# EAGLE library part MSP430FR2311IPW16 (library companion_board)
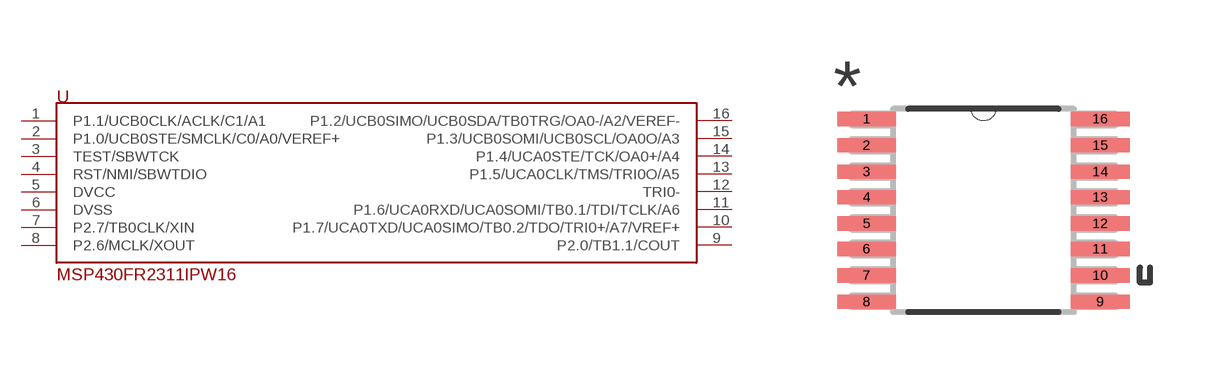
[diagram p0: symbol with the pads of SOP65P640X120-16N; footprint SOP65P640X120-16N]

Designator prefix -

## MSP430FR2311IPW16  [SOP65P640X120-16N]
1  P1.1/UCB0CLK/ACLK/C1/A1
2  P1.0/UCB0STE/SMCLK/C0/A0/VEREF+
3  TEST/SBWTCK
4  RST/NMI/SBWTDIO
5  DVCC
6  DVSS
7  P2.7/TB0CLK/XIN
8  P2.6/MCLK/XOUT
9  P2.0/TB1.1/COUT
10  P1.7/UCA0TXD/UCA0SIMO/TB0.2/TDO/TRI0+/A7/VREF+
11  P1.6/UCA0RXD/UCA0SOMI/TB0.1/TDI/TCLK/A6
12  TRI0-
13  P1.5/UCA0CLK/TMS/TRI0O/A5
14  P1.4/UCA0STE/TCK/OA0+/A4
15  P1.3/UCB0SOMI/UCB0SCL/OA0O/A3
16  P1.2/UCB0SIMO/UCB0SDA/TB0TRG/OA0-/A2/VEREF-

## Footprint SOP65P640X120-16N (pad centres in mm)
smd 1.473 x 0.356: 1 -2.921,2.286; 2 -2.921,1.626; 3 -2.921,0.965; 4 -2.921,0.33; 5 -2.921,-0.33; 6 -2.921,-0.965; 7 -2.921,-1.626; 8 -2.921,-2.286; 9 2.921,-2.286; 10 2.921,-1.626; 11 2.921,-0.965; 12 2.921,-0.33; 13 2.921,0.33; 14 2.921,0.965; 15 2.921,1.626; 16 2.921,2.286